# EAGLE library part ISP-CORTEX (library balto)
ISP ARM Cortex
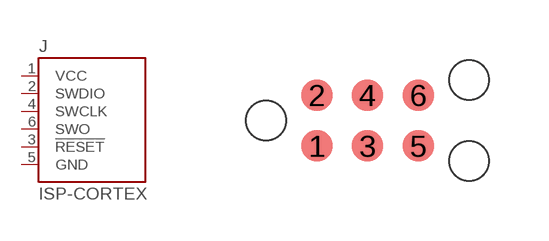
[diagram p60: symbol with the pads of TCO2030-IDC-NL; footprint TCO2030-IDC-NL]

Designator prefix J

## ISP-CORTEX-TC2030  [TCO2030-IDC-NL]
1  VCC
2  SWDIO
3  !RESET
4  SWCLK
5  GND
6  SWO

## Footprint TCO2030-IDC-NL (pad centres in mm)
TC2030-IDC-NL https://www.tag-connect.com/wp-content/uploads/bsk-pdf-manager/2019/12/TC2030-IDC-NL-Datasheet-Rev-B.pdf
smd 0.787 x 0.787: 1 -1.27,-0.635; 2 -1.27,0.635; 3 0,-0.635; 4 0,0.635; 5 1.27,-0.635; 6 1.27,0.635
hole 0.991 at -2.54,0
hole 0.991 at 2.54,1.016
hole 0.991 at 2.54,-1.016